# EAGLE library part WRL-13768 (library sneecat_lib)
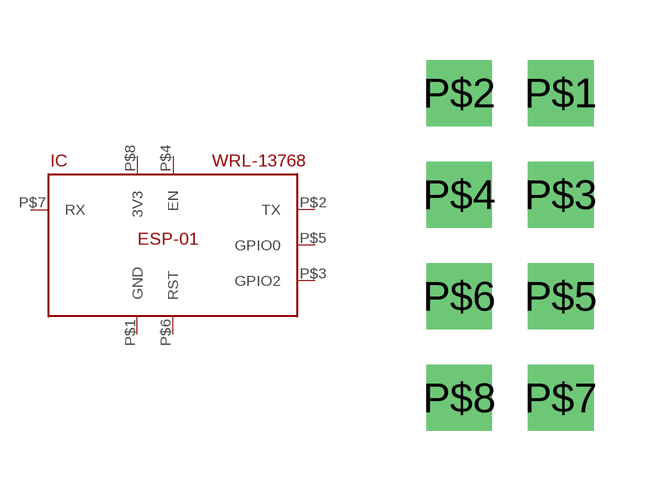
[diagram p1: symbol with the pads of ESP-01; footprint ESP-01]

Designator prefix IC

## WRL-13768MODULE  [ESP-01]
P$1  GND
P$2  TX
P$3  GPIO2
P$4  EN
P$5  GPIO0
P$6  RST
P$7  RX
P$8  3V3

## Footprint ESP-01 (pad centres in mm)
drill 1.1 square: P$1 -6.655,3.575; P$2 -9.195,3.575; P$3 -6.655,1.035; P$4 -9.195,1.035; P$5 -6.655,-1.505; P$6 -9.195,-1.505; P$7 -6.655,-4.045; P$8 -9.195,-4.045